# EAGLE library part MC14541BCPG (library ON Semiconductor_By_element14_Batch_1)
Programmable Timer
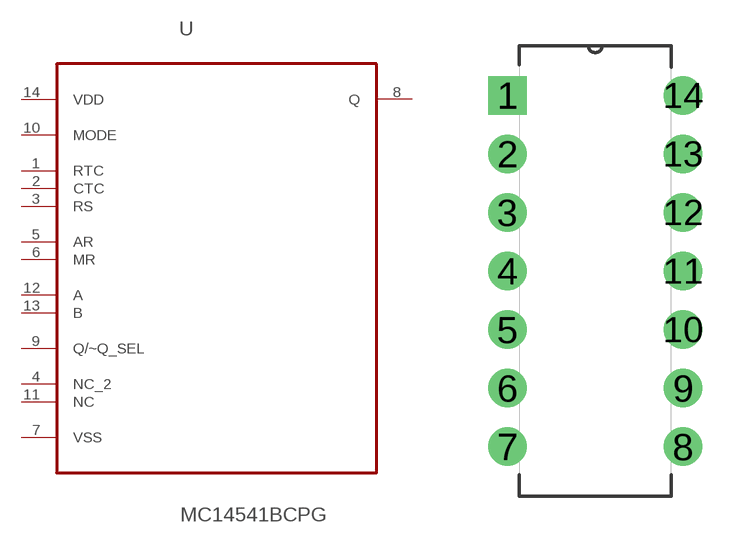
[diagram p294: symbol with the pads of DIP254P762X469-14; footprint DIP254P762X469-14]

Designator prefix U

## MC14541BCPG (MPN: MC14541BCPG; OC_FARNELL: 9665668; OC_NEWARK: 45J1124; P1I: o; PACKAGE: PDIP-14; SUPPLIER: ON SEMICONDUCTOR)  [DIP254P762X469-14]
1  RTC  in
2  CTC  in
3  RS  in
4  NC_2  nc
5  AR  in
6  MR  in
7  VSS  pwr
8  Q  out
9  Q/~Q_SEL  in
10  MODE  in
11  NC  nc
12  A  in
13  B  in
14  VDD  pwr

## Footprint DIP254P762X469-14 (pad centres in mm)
drill 1.118 square: 1 -7.62,15.24
drill 1.118: 2 -7.62,12.7; 3 -7.62,10.16; 4 -7.62,7.62; 5 -7.62,5.08; 6 -7.62,2.54; 7 -7.62,0; 8 0,0; 9 0,2.54; 10 0,5.08; 11 0,7.62; 12 0,10.16; 13 0,12.7; 14 0,15.24